# Altium schematic symbol library Дроссели и трансформаторы.SchLib: 3 symbols
Pins are listed as number, name and electrical type; pins without a type are passive.

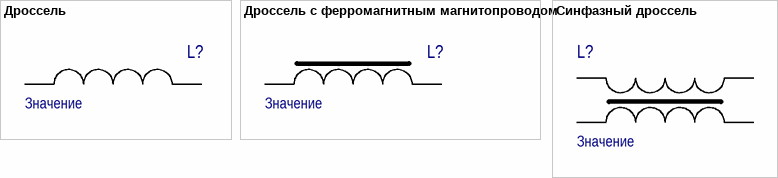
[diagram p0: symbols Дроссель to Синфазный дроссель]

## Дроссель
designator L?, comment Значение
Индуктивность; Value: Значение; Part: *; Alternative part: *; ComponentLink1Description: Link; ComponentLink1URL: *; ComponentLink2Description: Alternative link; ComponentLink2URL: *
pins: 1, 2

## Дроссель с ферромагнитным магнитопроводом
designator L?, comment Значение
Индуктивность; Value: Значение; Part: *; Alternative part: *; ComponentLink1Description: Link; ComponentLink1URL: *; ComponentLink2Description: Alternative link; ComponentLink2URL: *
pins: 1, 2

## Синфазный дроссель
designator L?, comment Значение
Синфазный дроссель; Value: Значение; Part: *; Alternative part: *; ComponentLink1Description: Link; ComponentLink1URL: *; ComponentLink2Description: Alternative link; ComponentLink2URL: *
pins: 1, 2, 3, 4